# Altium integrated library Analog Devices Power Management Multi-Output Regulators.IntLib: 30 symbols (part 3 of 3)
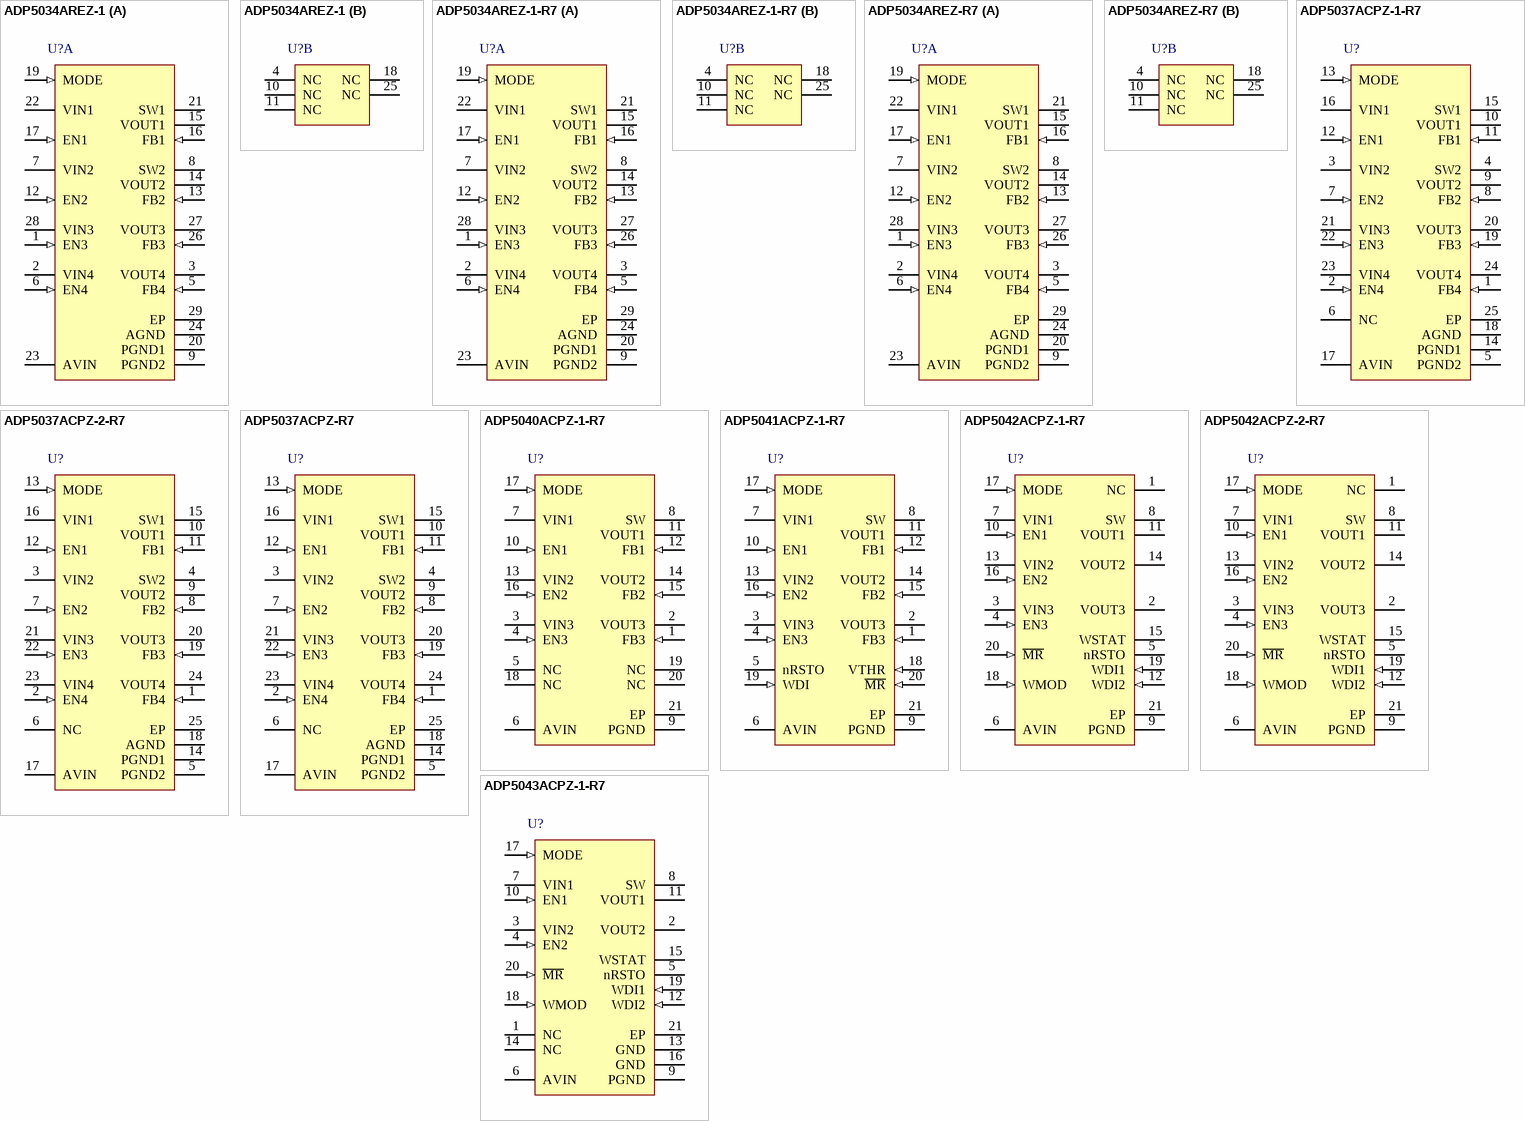
[diagram p3: symbols ADP5034AREZ-1 to ADP5043ACPZ-1-R7]

## ADP5041ACPZ-1-R7
designator U?
Micro PMU with 1.2 A Buck Regulator with Two 300 mA LDOs, Supervisory, Watchdog, and Manual Reset, 2.3 to 5.5 V Vin, Industrial, 20-pin QFN (CP-20-10), Reel; Manufacturer: Analog Devices; PartNumber: ADP5041ACPZ-1-R7; Interface: GPIO; Output Current (mA): 300; Number of Outputs: 3; Vin (max) (V): 5.5; Vin (min) (V): 2.3; DatasheetVersion: Rev. 0; PackageVersion: 061609-B, 06/2009; PackageReference: CP-20-10; PackageDescription: 20-Pin Lead Frame Chip Scale Package, Body 4 x 4 mm, Pitch 0.5 mm; Supplier 1: Digi-Key; Supplier Part Number 1: ADP5041ACPZ-1-R7TR-ND; Supplier 2: Digi-Key; Supplier Part Number 2: ADP5041ACPZ-1-R7CT-ND; Supplier 3: Digi-Key; Supplier Part Number 3: ADP5041ACPZ-1-R7DKR-ND; Supplier 4: Farnell; Supplier Part Number 4: 2081050; Supplier 5: Newark; Supplier Part Number 5: 83T2129; Supplier 6: Mouser; Supplier Part Number 6: 584-ADP5041ACPZ-1-R7; Packing: Reel; Mounting Technology: Surface Mount; Code_JEDEC: MO-220-WGGD; ComponentLink1Description: Manufacturer URL; ComponentLink1URL: http://www.analog.com/en/index.html; ComponentLink2Description: Datasheet; ComponentLink2URL: http://www.analog.com/static/imported-files/data_sheets/ADP5041.pdf; ComponentLink3Description: Package Specification; ComponentLink3URL: http:/www.analog.com/static/imported-files/packages/PKG_PDF/LFCSP(CP)/CP_20_10.pdf; ComponentLink4Description: URL Link1; ComponentLink4URL: Product URL:http://www.analog.com/en/ADP5041/productSearch.html
footprint ADI-CP-20-10_N (QFN, 20-Leads, Body 4x4mm, Pitch 0.5mm, Thermal Pad 2.5x2.5mm, IPC Medium Density)
footprint ADI-CP-20-10_L (QFN, 20-Leads, Body 4x4mm, Pitch 0.5mm, Thermal Pad 2.5x2.5mm, IPC High Density)
footprint ADI-CP-20-10_M (QFN, 20-Leads, Body 4x4mm, Pitch 0.5mm, Thermal Pad 2.5x2.5mm, IPC Low Density)
pins: 1 FB3 (in) "LDO2 Feedback Input.", 2 VOUT3 (power) "LDO2 Output Voltage.", 3 VIN3 (power) "LDO2 Input Supply (1.7 V to 5.5 V).", 4 EN3 (in) "Enable LDO2. EN3 = high: turn on LDO2; EN3 = low: turn off LDO2.", 5 nRSTO (oc) "Open-Drain Reset Output, Active Low.", 6 AVIN (power) "Housekeeping and Supervisory Input Supply (2.3 V to 5.5 V).", 7 VIN1 (power) "Buck Input Supply (2.3 V to 5.5 V).", 8 SW (power) "Buck Switching Node.", 9 PGND (power) "Dedicated Power Ground for Buck Regulator.", 10 EN1 (in) "Enable Buck. EN1 = high: turn on buck; EN1 = low: turn off buck.", 11 VOUT1 "Buck Output Sensing Node.", 12 FB1 (in) "Buck Feedback Input.", 13 VIN2 (power) "LDO1 Input Supply (1.7 V to 5.5 V).", 14 VOUT2 (power) "LDO1 Output Voltage.", 15 FB2 (in) "LDO1 Feedback Input.", 16 EN2 (in) "Enable LDO1. EN2 = high: turn on LDO1; EN2 = low: turn off LDO1.", 17 MODE (in) "Buck Mode. MODE = high; buck regulator operates in fixed PWM mode; MODE = low; buck regulator operates in power saving mode (PSM) at light load and in constant PWM at higher load.", 18 VTHR (in) "Reset Threshold Programming.", 19 WDI (in) "Watchdog Refresh Input from Processor. If WDI is in high-Z, watchdog is disabled.", 20 ~{MR} (in) "Manual Reset Input, Active Low.", 21 EP (power) "Exposed Pad (Analog Ground). The exposed pad must be connected to the system ground plane."

## ADP5042ACPZ-1-R7
designator U?
Micro PMU with 800 mA Buck Regulator with Two 300 mA LDOs Supervisory, Watchdog and Manual Reset, 2.3 to 5.5 V Vin, 1.5; 1.8; 3.3 V Vout, Industrial, 20-pin QFN (CP-20-10), Reel; Manufacturer: Analog Devices; PartNumber: ADP5042ACPZ-1-R7; Interface: GPIO; Output Current (mA): 300; Number of Outputs: 3; Vin (max) (V): 5.5; Vin (min) (V): 2.3; DatasheetVersion: Rev. A; PackageVersion: 061609-B, 06/2009; PackageReference: CP-20-10; PackageDescription: 20-Pin Lead Frame Chip Scale Package, Body 4 x 4 mm, Pitch 0.5 mm; Supplier 1: Digi-Key; Supplier Part Number 1: ADP5042ACPZ-1-R7TR-ND; Supplier 2: Digi-Key; Supplier Part Number 2: ADP5042ACPZ-1-R7CT-ND; Supplier 3: Digi-Key; Supplier Part Number 3: ADP5042ACPZ-1-R7DKR-ND; Supplier 4: Newark; Supplier Part Number 4: 27T3809; Supplier 5: Mouser; Supplier Part Number 5: 584-ADP5042ACPZ-1-R7; Packing: Reel; Vout Preset (V): 1.5; 1.8; 3.3; Mounting Technology: Surface Mount; Code_JEDEC: MO-220-WGGD; ComponentLink1Description: Manufacturer URL; ComponentLink1URL: http://www.analog.com/en/index.html; ComponentLink2Description: Datasheet; ComponentLink2URL: http://www.analog.com/static/imported-files/data_sheets/ADP5042.pdf; ComponentLink3Description: Package Specification; ComponentLink3URL: http:/www.analog.com/static/imported-files/packages/PKG_PDF/LFCSP(CP)/CP_20_10.pdf; ComponentLink4Description: URL Link1; ComponentLink4URL: Product URL:http://www.analog.com/en/ADP5042/productSearch.html
footprint ADI-CP-20-10_N (QFN, 20-Leads, Body 4x4mm, Pitch 0.5mm, Thermal Pad 2.5x2.5mm, IPC Medium Density)
footprint ADI-CP-20-10_L (QFN, 20-Leads, Body 4x4mm, Pitch 0.5mm, Thermal Pad 2.5x2.5mm, IPC High Density)
footprint ADI-CP-20-10_M (QFN, 20-Leads, Body 4x4mm, Pitch 0.5mm, Thermal Pad 2.5x2.5mm, IPC Low Density)
pins: 1 NC "Do not connect to this pin.", 2 VOUT3 (power) "LDO2 Output Voltage and Sensing Input.", 3 VIN3 (power) "LDO2 Input Supply (1.7 V to 5.5 V).", 4 EN3 (in) "Enable LDO2. EN3 = high: turn on LDO2; EN3 = low: turn off LDO2.", 5 nRSTO (oc) "Open-Drain Reset Output, Active Low.", 6 AVIN (power) "Regulators Housekeeping and Supervisory Input Supply (2.3 V to 5.5 V).", 7 VIN1 (power) "Buck Input Supply (2.3 V to 5.5 V).", 8 SW (power) "Buck Switching Node.", 9 PGND (power) "Dedicated Power Ground for Buck Regulator.", 10 EN1 (in) "Enable Buck. EN1 = high: turn on buck; EN1 = low: turn off buck.", 11 VOUT1 "Buck Sensing Node.", 12 WDI2 (in) "Watchdog 2 (Long Timeout) Refresh Input from Processor. Can be disabled only by factory option.", 13 VIN2 (power) "LDO1 Input Supply (1.7 V to 5.5 V).", 14 VOUT2 (power) "LDO1 Output Voltage and Sensing Input.", 15 WSTAT (oc) "Open-Drain Watchdog Timeout Status. WSTAT = high: Watchdog 1 timeout or power-on reset; WSTAT = low: Watchdog 2 timeout. Auto cleared after one second.", 16 EN2 (in) "Enable LDO1. EN2 = high: turn on LDO1. EN2 = low: turn off LDO1.", 17 MODE (in) "Buck Mode. MODE = high: buck regulator operates in fixed PWM mode; MODE = low: buck regulator operates in pulse skipping mode (PSM) at light load and in constant PWM at higher load.", 18 WMOD (in) "Watchdog Mode. WMOD = low: Watchdog 1 normal mode; WMOD = high: Watchdog 1 cannot be disabled by a three-state condition applied on WDI1.", 19 WDI1 (in) "Watchdog 1 Refresh Input from Processor. If WDI1 is in high-Z and WMOD is low, Watchdog 1 is disabled.", 20 ~{MR} (in) "Manual Reset Input, Active Low.", 21 EP (power) "Analog Ground (TP = Thermal Pad). Exposed pad should be connected to AGND."

## ADP5042ACPZ-2-R7
designator U?
Micro PMU with 800 mA Buck Regulator with Two 300 mA LDOs Supervisory, Watchdog and Manual Reset, 2.3 to 5.5 V Vin, 1.5; 1.8; 3.3 V Vout, Industrial, 20-pin QFN (CP-20-10), Reel; Manufacturer: Analog Devices; PartNumber: ADP5042ACPZ-2-R7; Interface: GPIO; Output Current (mA): 300; Number of Outputs: 3; Vin (max) (V): 5.5; Vin (min) (V): 2.3; DatasheetVersion: Rev. A; PackageVersion: 061609-B, 06/2009; PackageReference: CP-20-10; PackageDescription: 20-Pin Lead Frame Chip Scale Package, Body 4 x 4 mm, Pitch 0.5 mm; Supplier 1: Digi-Key; Supplier Part Number 1: ADP5042ACPZ-2-R7TR-ND; Supplier 2: Digi-Key; Supplier Part Number 2: ADP5042ACPZ-2-R7CT-ND; Supplier 3: Digi-Key; Supplier Part Number 3: ADP5042ACPZ-2-R7DKR-ND; Supplier 4: Newark; Supplier Part Number 4: 27T3810; Supplier 5: Mouser; Supplier Part Number 5: 584-ADP5042ACPZ-2-R7; Packing: Reel; Vout Preset (V): 1.5; 1.8; 3.3; Mounting Technology: Surface Mount; Code_JEDEC: MO-220-WGGD; ComponentLink1Description: Manufacturer URL; ComponentLink1URL: http://www.analog.com/en/index.html; ComponentLink2Description: Datasheet; ComponentLink2URL: http://www.analog.com/static/imported-files/data_sheets/ADP5042.pdf; ComponentLink3Description: Package Specification; ComponentLink3URL: http:/www.analog.com/static/imported-files/packages/PKG_PDF/LFCSP(CP)/CP_20_10.pdf; ComponentLink4Description: URL Link1; ComponentLink4URL: Product URL:http://www.analog.com/en/ADP5042/productSearch.html
footprint ADI-CP-20-10_N (QFN, 20-Leads, Body 4x4mm, Pitch 0.5mm, Thermal Pad 2.5x2.5mm, IPC Medium Density)
footprint ADI-CP-20-10_L (QFN, 20-Leads, Body 4x4mm, Pitch 0.5mm, Thermal Pad 2.5x2.5mm, IPC High Density)
footprint ADI-CP-20-10_M (QFN, 20-Leads, Body 4x4mm, Pitch 0.5mm, Thermal Pad 2.5x2.5mm, IPC Low Density)
pins: 1 NC "Do not connect to this pin.", 2 VOUT3 (power) "LDO2 Output Voltage and Sensing Input.", 3 VIN3 (power) "LDO2 Input Supply (1.7 V to 5.5 V).", 4 EN3 (in) "Enable LDO2. EN3 = high: turn on LDO2; EN3 = low: turn off LDO2.", 5 nRSTO (oc) "Open-Drain Reset Output, Active Low.", 6 AVIN (power) "Regulators Housekeeping and Supervisory Input Supply (2.3 V to 5.5 V).", 7 VIN1 (power) "Buck Input Supply (2.3 V to 5.5 V).", 8 SW (power) "Buck Switching Node.", 9 PGND (power) "Dedicated Power Ground for Buck Regulator.", 10 EN1 (in) "Enable Buck. EN1 = high: turn on buck; EN1 = low: turn off buck.", 11 VOUT1 "Buck Sensing Node.", 12 WDI2 (in) "Watchdog 2 (Long Timeout) Refresh Input from Processor. Can be disabled only by factory option.", 13 VIN2 (power) "LDO1 Input Supply (1.7 V to 5.5 V).", 14 VOUT2 (power) "LDO1 Output Voltage and Sensing Input.", 15 WSTAT (oc) "Open-Drain Watchdog Timeout Status. WSTAT = high: Watchdog 1 timeout or power-on reset; WSTAT = low: Watchdog 2 timeout. Auto cleared after one second.", 16 EN2 (in) "Enable LDO1. EN2 = high: turn on LDO1. EN2 = low: turn off LDO1.", 17 MODE (in) "Buck Mode. MODE = high: buck regulator operates in fixed PWM mode; MODE = low: buck regulator operates in pulse skipping mode (PSM) at light load and in constant PWM at higher load.", 18 WMOD (in) "Watchdog Mode. WMOD = low: Watchdog 1 normal mode; WMOD = high: Watchdog 1 cannot be disabled by a three-state condition applied on WDI1.", 19 WDI1 (in) "Watchdog 1 Refresh Input from Processor. If WDI1 is in high-Z and WMOD is low, Watchdog 1 is disabled.", 20 ~{MR} (in) "Manual Reset Input, Active Low.", 21 EP (power) "Analog Ground (TP = Thermal Pad). Exposed pad should be connected to AGND."

## ADP5043ACPZ-1-R7
designator U?
Micro PMU with 800 mA Buck Regulator with 300 mA LDO, Supervisory, Watchdog, and Manual Reset, 2.3 to 5.5 V Vin, 1.5; 3.3 V Vout, Industrial, 20-pin QFN (CP-20-10), Reel; Manufacturer: Analog Devices; PartNumber: ADP5043ACPZ-1-R7; Interface: GPIO; Output Current (mA): 300; Number of Outputs: 2; Vin (max) (V): 5.5; Vin (min) (V): 2.3; DatasheetVersion: Rev. A; PackageVersion: 061609-B, 06/2009; PackageReference: CP-20-10; PackageDescription: 20-Pin Lead Frame Chip Scale Package, Body 4 x 4 mm, Pitch 0.5 mm; Supplier 1: Digi-Key; Supplier Part Number 1: ADP5043ACPZ-1-R7TR-ND; Supplier 2: Digi-Key; Supplier Part Number 2: ADP5043ACPZ-1-R7CT-ND; Supplier 3: Digi-Key; Supplier Part Number 3: ADP5043ACPZ-1-R7DKR-ND; Supplier 4: Farnell; Supplier Part Number 4: 1903623; Supplier 5: Newark; Supplier Part Number 5: 47T4653; Supplier 6: Mouser; Supplier Part Number 6: 584-ADP5043ACPZ-1-R7; Packing: Reel; Vout Preset (V): 1.5; 3.3; Mounting Technology: Surface Mount; Code_JEDEC: MO-220-WGGD; ComponentLink1Description: Manufacturer URL; ComponentLink1URL: http://www.analog.com/en/index.html; ComponentLink2Description: Datasheet; ComponentLink2URL: http://www.analog.com/static/imported-files/data_sheets/ADP5043.pdf; ComponentLink3Description: Package Specification; ComponentLink3URL: http:/www.analog.com/static/imported-files/packages/PKG_PDF/LFCSP(CP)/CP_20_10.pdf; ComponentLink4Description: URL Link1; ComponentLink4URL: Product URL:http://www.analog.com/en/ADP5043/productSearch.html
footprint ADI-CP-20-10_N (QFN, 20-Leads, Body 4x4mm, Pitch 0.5mm, Thermal Pad 2.5x2.5mm, IPC Medium Density)
footprint ADI-CP-20-10_L (QFN, 20-Leads, Body 4x4mm, Pitch 0.5mm, Thermal Pad 2.5x2.5mm, IPC High Density)
footprint ADI-CP-20-10_M (QFN, 20-Leads, Body 4x4mm, Pitch 0.5mm, Thermal Pad 2.5x2.5mm, IPC Low Density)
pins: 1 NC "Do not connect to this pin. The pin should be left floating.", 2 VOUT2 (power) "LDO Output Voltage and Sensing Input.", 3 VIN2 (power) "LDO Input Supply (1.7 V to 5.5 V).", 4 EN2 (in) "Enable LDO. EN2 = high: turn on the LDO; EN2 = low: turn off the LDO.", 5 nRSTO (oc) "Open-Drain Reset Output, Active Low.", 6 AVIN (power) "Regulators Housekeeping and Supervisory Input Supply (2.3 V to 5.5 V).", 7 VIN1 (power) "Buck Input Supply (2.3 V to 5.5 V).", 8 SW (power) "Buck Switching Node.", 9 PGND (power) "Dedicated Power Ground for Buck Regulator.", 10 EN1 (in) "Enable Buck. EN1 = high: turn on buck; EN1 = low: turn off buck.", 11 VOUT1 "Buck Sensing Node.", 12 WDI2 (in) "Watchdog 2 (Long Timeout) Refresh Input from Processor. Can be disabled only by factory option.", 13 GND (power) "Connect to the ground plane.", 14 NC "Do not connect to this pin. The pin should be left floating.", 15 WSTAT (oc) "Open-Drain Watchdog Timeout Status. WSTAT = high: Watchdog 1 timeout or power-on reset; WSTAT = low: Watchdog 2 timeout. Auto cleared after one second.", 16 GND (power) "Connect to the ground plane.", 17 MODE (in) "Buck Mode. MODE = high: buck regulator operates in fixed PWM mode; MODE = low: buck regulator operates in pulse skipping mode (PSM) at light load and in constant PWM at higher load.", 18 WMOD (in) "Watchdog Mode. WMOD = low: Watchdog 1 normal mode; WMOD = high: Watchdog 1 cannot be disabled by a three-state condition applied on WDI1. WMOD has an internal 200 k ohm pull-down resistor connected to AGND.", 19 WDI1 (in) "Watchdog 1 Refresh Input from Processor. If WDI1 is in high-Z and WMOD is low, Watchdog 1 is disabled.", 20 ~{MR} (in) "Manual Reset Input, Active Low.", 21 EP (power) "Analog Ground (TP = Thermal Pad). Exposed pad should be connected to AGND."